# Altium footprint library OltestLib_popadjuk.PcbLib: 113 footprints (part 3 of 8)
Each footprint in its own frame and in the unit in brackets; x right, y up, seen from the top. Pads: shape width x height; smd on the part's side, far side on the other; paste and mask are expansions set on the pad; w line width, h text height; cw(c..) or ccw(c..) is an arc to the next point about the centre after c.
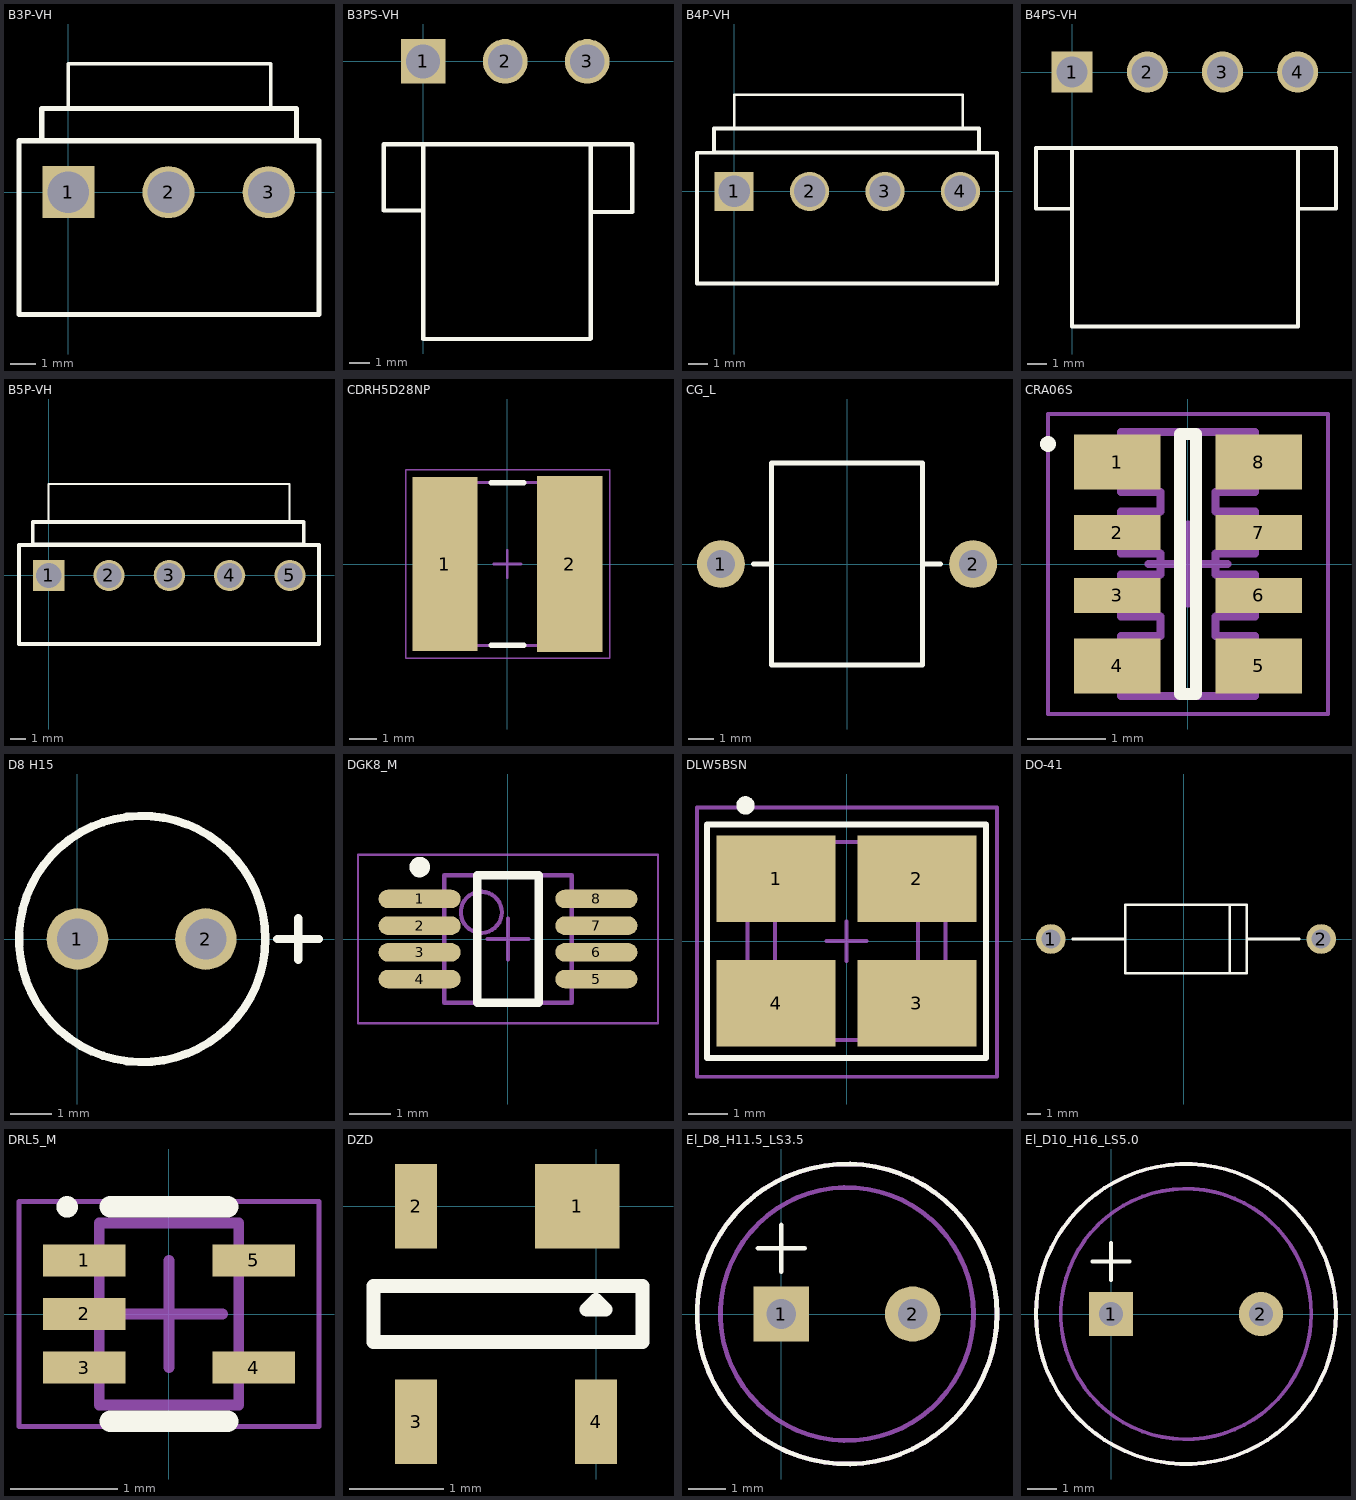
[diagram p2: the footprints below, top view; thin cyan lines are the x and y axes]

## B3P-VH [mm]
pads (3):
  rect 2.057x2.057 / inner round 0 / far side round 2.057 hole 1.65 mask+0.128: 1(0,0)
  round 2.057 / inner round 0 / far side round 2.057 hole 1.65 mask+0.128: 2(3.96,0) 3(7.92,0)
Top Overlay:
  lines w0.127: 0,3.302 8.001,3.302 8.001,5.08 0,5.08 0,3.302
  lines w0.203: -1.95,-4.826 -1.95,2.032 9.906,2.032 9.906,-4.826 -1.95,-4.826 ; -1.05,2.05 9.017,2.05 9.017,3.302 -1.05,3.302 -1.05,2.05
3D body "B3P-VH.STEP": height 10.93, standoff -3.67, extent -1.947,-4.783 9.873,3.717

## B3PS-VH [mm]
pads (3):
  rect 2.158x2.158 / inner round 0 / far side rect 2.158x2.158 hole 1.65 mask+0.128: 1(0,0)
  round 2.158 / inner round 0 / far side round 2.158 hole 1.65 mask+0.128: 2(3.96,0) 3(7.92,0)
Top Overlay:
  lines w0.203: 0,-7.2 -1.9,-7.2 -1.9,-4 10.084,-4 ; 0,-4 0,-13.4 8.063,-13.4 8.09,-13.373 8.09,-4 ; 8.103,-7.264 8.752,-7.264 9.441,-7.264 10.09,-7.264 10.09,-4
3D body "B3PS-VH.STEP": height 8.5, standoff -3.6, extent -1.947,-14.912 9.873,0.558

## B4P-VH [mm]
pads (4):
  rect 2.057x2.057 / inner round 0 / far side round 2.057 hole 1.65 mask+0.128: 1(0,0)
  round 2.057 / inner round 0 / far side round 2.057 hole 1.65 mask+0.128: 2(3.96,0) 3(7.92,0) 4(11.88,0)
Top Overlay:
  lines w0.127: 0,3.302 0,5.08 12,5.08 12,3.302 0,3.302
  lines w0.203: -1.95,-4.826 13.8,-4.826 13.8,2.032 -1.95,2.032 -1.95,-4.826 ; -1.05,2.05 -1.05,3.302 12.85,3.302 12.85,2.05 -1.05,2.05
3D body "B4P-VH.STEP": height 10.93, standoff -3.67, extent -1.946,-4.783 13.834,3.717

## B4PS-VH [mm]
pads (4):
  rect 2.158x2.158 / inner round 0 / far side rect 2.158x2.158 hole 1.65 mask+0.128: 1(0,0)
  round 2.158 / inner round 0 / far side round 2.158 hole 1.65 mask+0.128: 2(3.96,0) 3(7.92,0) 4(11.88,0)
Top Overlay:
  lines w0.203: 0,-7.2 -1.9,-7.2 -1.9,-4 13.9,-4 13.9,-7.2 11.9,-7.2 ; 0,-13.4 11.9,-13.4 11.9,-4 0,-4 0,-13.4
3D body "B4PS-VH.STEP": height 8.5, standoff -3.6, extent -1.946,-14.911 13.834,0.559

## B5P-VH [mm]
pads (5):
  rect 2.057x2.057 / inner round 0 / far side round 2.057 hole 1.65 mask+0.128: 1(0,0)
  round 2.057 / inner round 0 / far side round 2.057 hole 1.65 mask+0.128: 2(3.96,0) 3(7.92,0) 4(11.88,0) 5(15.84,0)
Top Overlay:
  lines w0.127: 0,3.5 15.8,3.5 15.8,6 0,6 0,3.5
  lines w0.254: -1.95,-4.5 -1.95,2 17.75,2 17.75,-4.5 -1.95,-4.5 ; -1.05,2.05 -1.05,3.5 16.75,3.5 16.75,2.05 -1.05,2.05

## CDRH5D28NP [mm] "Precision Wire Wound Inductor, 2-Leads, Body 5,75x5,75mm, IPC Low Density"
height 2.8
pads (2):
  rect 2.4x6.4 smd: 1(-2.3,0)
  rect 2.4x6.5 smd: 2(2.3,0)
Top Overlay:
  lines w0.2: -0.6,-3 0.6,-3 ; -0.6,3 0.6,3
Mechanical 13:
  lines w0.1: -3,-3 -3,3 3,3 3,-3 -3,-3
Mechanical 15:
  lines w0.05: -3.75,-3.475 -3.75,3.475 3.775,3.475 3.775,-3.475 -3.75,-3.475
  lines w0.1: -0.5,0 0.5,0 ; 0,-0.5 0,0.5
3D body "INDP5858X28M.step": height 2.9, standoff 0, extent -2.975,-3 2.975,3

## CG_L [mm]
height 10
pads (2):
  round 1.9 hole 1.1: 1(-5,0) 2(5,0)
Top Overlay:
  lines w0.203: -3.7,0 -3,0 ; 3,0 3.7,0 ; -3,-4 -3,4 3,4 3,-4 -3,-4
3D body "CG_L.stp": height 9.55, standoff -2.51, extent -5.4,-4.05 5.4,4.05

## CRA06S [mm] "Chip Array, ConvexS, 8-Leads, Pitch 0,80mm,  Body 3,20x1,50mm,  IPC Low Density"
height 0.6
pads (8):
  rect 1.1x0.7 smd: 1(-0.9,1.295) 4(-0.9,-1.295) 5(0.9,-1.295) 8(0.9,1.295)
  rect 1.1x0.45 smd: 2(-0.9,0.4) 3(-0.9,-0.4) 6(0.9,-0.4) 7(0.9,0.4)
Top Overlay:
  circle w0.1: c-1.778,1.524 r0.05
  lines w0.152: -0.102,-1.651 -0.102,1.651 0.102,1.651 0.102,-1.651 -0.102,-1.651
Mechanical 13:
  lines w0.1: -0.85,-1.675 -0.85,-0.915 -0.35,-0.915 -0.35,-0.665 -0.85,-0.665 -0.85,-0.135 -0.35,-0.135 -0.35,0.135 -0.85,0.135 -0.85,0.665 -0.35,0.665 -0.35,0.915 -0.85,0.915 -0.85,1.675 0.85,1.675 0.85,0.915 0.35,0.915 0.35,0.665 0.85,0.665 0.85,0.135 0.35,0.135 0.35,-0.135 0.85,-0.135 0.85,-0.665 0.35,-0.665 0.35,-0.915 0.85,-0.915 0.85,-1.675 -0.85,-1.675
Mechanical 15:
  lines w0.05: -1.778,-1.905 -1.778,1.905 1.778,1.905 1.778,-1.905 -1.778,-1.905
  lines w0.1: -0.5,0 0.5,0 ; 0,-0.5 0,0.5
3D body "CAC-80P319X150-8M.step": height 0.6, standoff 0, extent -0.875,-1.675 0.875,1.675

## D8 H15 [mm] "EB 220uF 35VDC 105C D8 H15"
height 15
pads (2):
  round 1.5 hole 1: 1(0,0) 2(3.125,0)
Top Overlay:
  circle w0.2: c1.575,0 r3
  lines w0.2: 4.867,0 5.883,0 ; 5.375,-0.508 5.375,0.508
3D body: height 15, standoff 0, extent -0.924,-2.499 4.074,2.499

## DGK8_M [mm] "TSOP, 8-Leads, Body 3x3mm, Pitch 0.65mm, IPC Low Density"
height 1.1
pads (8):
  oval 2x0.45 smd: 1(-2.15,0.975) 2(-2.15,0.325) 3(-2.15,-0.325) 4(-2.15,-0.975) 5(2.15,-0.975) 6(2.15,-0.325) 7(2.15,0.325) 8(2.15,0.975)
Top Overlay:
  circle w0.25: c-2.15,1.75 r0.125
  lines w0.2: -0.75,-1.55 0.75,-1.55 0.75,1.55 -0.75,1.55 -0.75,-1.55
Mechanical 13:
  circle w0.1: c-0.65,0.65 r0.5
  lines w0.1: -1.55,-1.55 1.55,-1.55 1.55,1.55 -1.55,1.55 -1.55,-1.55
Mechanical 15:
  lines w0.05: -3.65,-2.05 3.65,-2.05 3.65,2.05 -3.65,2.05 -3.65,-2.05
  lines w0.1: -0.5,0 0.5,0 ; 0,-0.5 0,0.5
3D body: height 1.1, standoff 0.05, extent -1.55,-1.55 1.55,1.55

## DLW5BSN [mil] "SMD Inductor"
height 177.17
pads (4):
  rect 118x86 smd: 1(-70,62) 2(70,62) 3(70,-62) 4(-70,-62)
Top Overlay:
  circle w10: c-100.39,134.84 r4.18
  lines w6: -138.78,-116.14 -138.78,116.14 138.78,116.14 138.78,-116.14 -138.78,-116.14
Mechanical 13:
  lines w3.94: -98.43,-98.43 98.43,-98.43 98.43,98.43 -98.43,98.43 -98.43,-98.43 ; -70.87,-98.43 70.87,-98.43 70.87,98.43 -70.87,98.43 -70.87,-98.43
Mechanical 15:
  lines w3.94: -19.69,0 19.68,0 ; 0,-19.69 0,19.68 ; -148.62,-134.84 149.61,-134.84 149.61,132.87 -148.62,132.87 -148.62,-134.84
3D body: height 17.72, standoff 0, extent -70.85,-98.41 70.85,98.41
3D body: height 159.45, standoff 17.72, extent -100.39,-100.39 100.39,100.39

## DO-41 [mm] "AXIAL, 2-Leads, Diameter 5.2mm"
height 7
pads (2):
  round 2.2 hole 1.4: 1(-9.825,0.025) 2(10.175,0.025)
Top Overlay:
  lines w0.2: -8.207,0.025 -4.325,0.025 ; 3.405,-2.5 3.405,2.55 ; 4.675,0.025 8.557,0.025 ; -4.325,-2.5 4.675,-2.5 4.675,2.55 -4.325,2.55 -4.325,-2.5
3D body "do-201ad.STEP": height 6.55, standoff -2.5, extent -10.375,-2.525 10.725,2.575

## DRL5_M [mm] "SOTFL, 5-Flat Leads, Body 1.2x1.6x0.6mm, Pitch 0.5mm, IPC Low Density"
height 0.6
pads (5):
  rect 0.77x0.3 smd: 1(-0.79,0.5) 2(-0.79,0) 3(-0.79,-0.5) 4(0.79,-0.5) 5(0.79,0.5)
Top Overlay:
  circle w0.1: c-0.95,1 r0.05
  lines w0.2: -0.55,-1 0.55,-1 ; -0.55,1 0.55,1
Mechanical 13:
  lines w0.1: -0.65,-0.85 -0.65,0.85 0.65,0.85 0.65,-0.85 -0.65,-0.85
Mechanical 15:
  lines w0.05: -1.4,-1.05 -1.4,1.05 1.4,1.05 1.4,-1.05 -1.4,-1.05
  lines w0.1: -0.5,0 0.5,0 ; 0,-0.5 0,0.5
3D body: height 0.6, standoff 0, extent -0.65,-0.85 0.65,0.85

## DZD [mm]
pads (4):
  rect 0.899x0.899 smd mask+0.102: 1(-0.2,0)
  rect 0.45x0.899 smd mask+0.102: 2(-1.92,0) 3(-1.92,-2.3) 4(0,-2.3)
Top Overlay:
  lines w0.15: -2.376,-1.45 -2.376,-0.85 0.496,-0.85 0.496,-1.45 -2.376,-1.45 ; -0.1,-1.1 0.1,-1.1 0,-1 -0.1,-1.1
3D body: height 1.2, standoff 0.1, extent -2.376,-1.832 0.496,-0.483

## El_D8_H11.5_LS3.5 [mm]
pads (2):
  rect 1.5x1.5 hole 0.8: 1(0,0)
  round 1.5 hole 0.8: 2(3.556,0)
Top Overlay:
  circle w0.127: c1.778,0 r4.064
  lines w0.127: -0.635,1.778 0.635,1.778 ; 0,1.143 0,2.413
Mechanical 13:
  circle w0.127: c1.778,0 r4.064
  circle w0.127: c1.778,0 r3.429
  circle w0.127: c1.778,0 r4.064
3D body: height 2.03, standoff 1.02, extent -1.65,-3.428 5.206,3.428
3D body: height 11.56, standoff 2.03, extent -2.285,-4.063 5.841,4.063
3D body: height 1.02, standoff 0, extent -2.285,-4.063 5.841,4.063

## El_D10_H16_LS5.0 [mm]
pads (2):
  rect 1.5x1.5 hole 0.8: 1(0,0)
  round 1.5 hole 0.8: 2(5.08,0)
Top Overlay:
  circle w0.127: c2.54,0 r5.08
  lines w0.127: -0.635,1.778 0.635,1.778 ; 0,1.143 0,2.413
Mechanical 13:
  circle w0.127: c2.54,0 r5.08
  circle w0.127: c2.54,0 r4.242
  circle w0.127: c2.54,0 r5.08
3D body: height 4.06, standoff 2.03, extent -1.701,-4.241 6.781,4.241
3D body: height 2.03, standoff 0, extent -2.539,-5.079 7.619,5.079
3D body: height 11.94, standoff 4.06, extent -2.539,-5.079 7.619,5.079